# EAGLE library part TDA7100 (library custom)
RF Transmitter ASK/FSK IC 433MHz 6.9dBm 7.5mA 2.1-4V
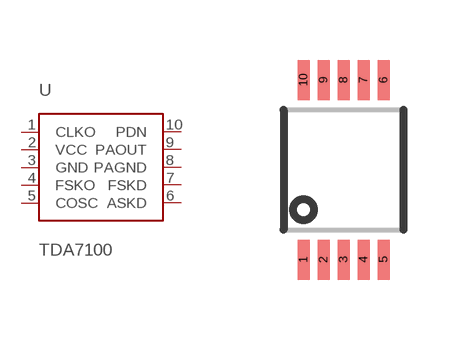
[diagram p34: symbol with the pads of 10-TSSOP; footprint 10-TSSOP]

Designator prefix -

## TDA7100  [10-TSSOP]
1  CLKO
2  VCC
3  GND
4  FSKO
5  COSC
6  ASKD
7  FSKD
8  PAGND
9  PAOUT
10  PDN

## Footprint 10-TSSOP (pad centres in mm)
smd 0.3 x 1: 1 -1,-2.25; 2 -0.5,-2.25; 3 0,-2.25; 4 0.5,-2.25; 5 1,-2.25; 6 1,2.25; 7 0.5,2.25; 8 0,2.25; 9 -0.5,2.25; 10 -1,2.25